# Altium footprint library PCB - CONNECTOR - OST - OST OSTTC070162.PcbLib: 1 footprints
Each footprint in its own frame and in the unit in brackets; x right, y up, seen from the top. Pads: shape width x height; smd on the part's side, far side on the other; paste and mask are expansions set on the pad; w line width, h text height; cw(c..) or ccw(c..) is an arc to the next point about the centre after c.
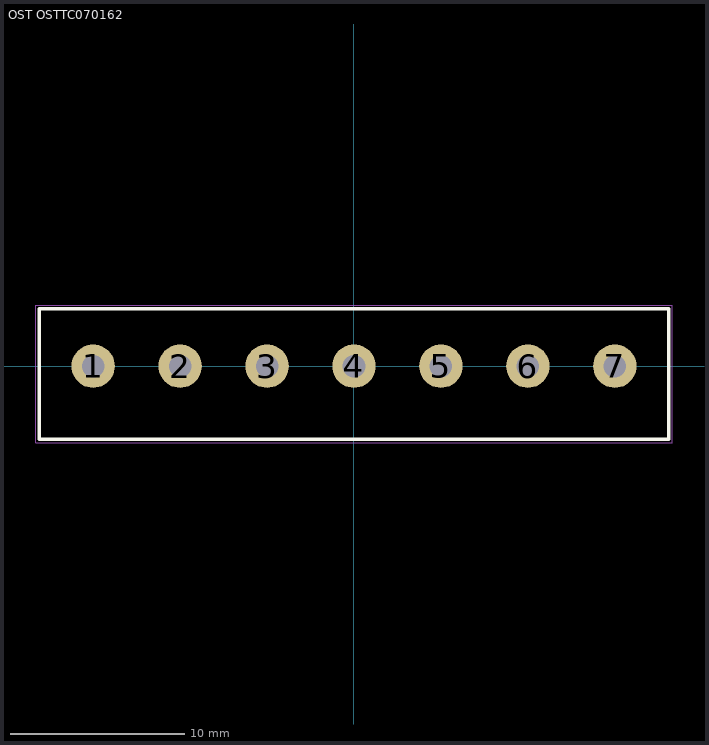
[diagram p0: the footprint, top view; thin cyan lines are the x and y axes]

## OST OSTTC070162 [mm] "Wire to Board Terminal Block Horizontal with Board, 7 Postions, Body 36.2x7.5mm, Pitch 5mm"
height 10.3
pads (7):
  round 2.5 hole 1.3: 1(-15,0) 2(-10,0) 3(-5,0) 4(0,0) 5(5,0) 6(10,0) 7(15,0)
Top Overlay:
  lines w0.2: -18.1,-4.2 18.1,-4.2 18.1,3.3 -18.1,3.3 -18.1,-4.2
Mechanical 13:
  lines w0.1: -18.1,-4.2 -18.1,3.3 18.1,3.3 18.1,-4.2 -18.1,-4.2
Mechanical 15 (Mech15):
  lines w0.05: -18.3,-4.4 -18.3,3.5 18.3,3.5 18.3,-4.4 -18.3,-4.4
  lines w0.1: -0.4,0 0,0 ; 0,-0.4 0,0 ; 0,0.4 0,0 ; 0.4,0 0,0
3D body "OST - OSTTC070162.stp": height 10.3, standoff -3.8, extent -18.1,-4.2 18.1,3.3